# Altium integrated library TI Data Converters Analog to Digital Converter.IntLib: 2198 symbols (part 60 of 164)
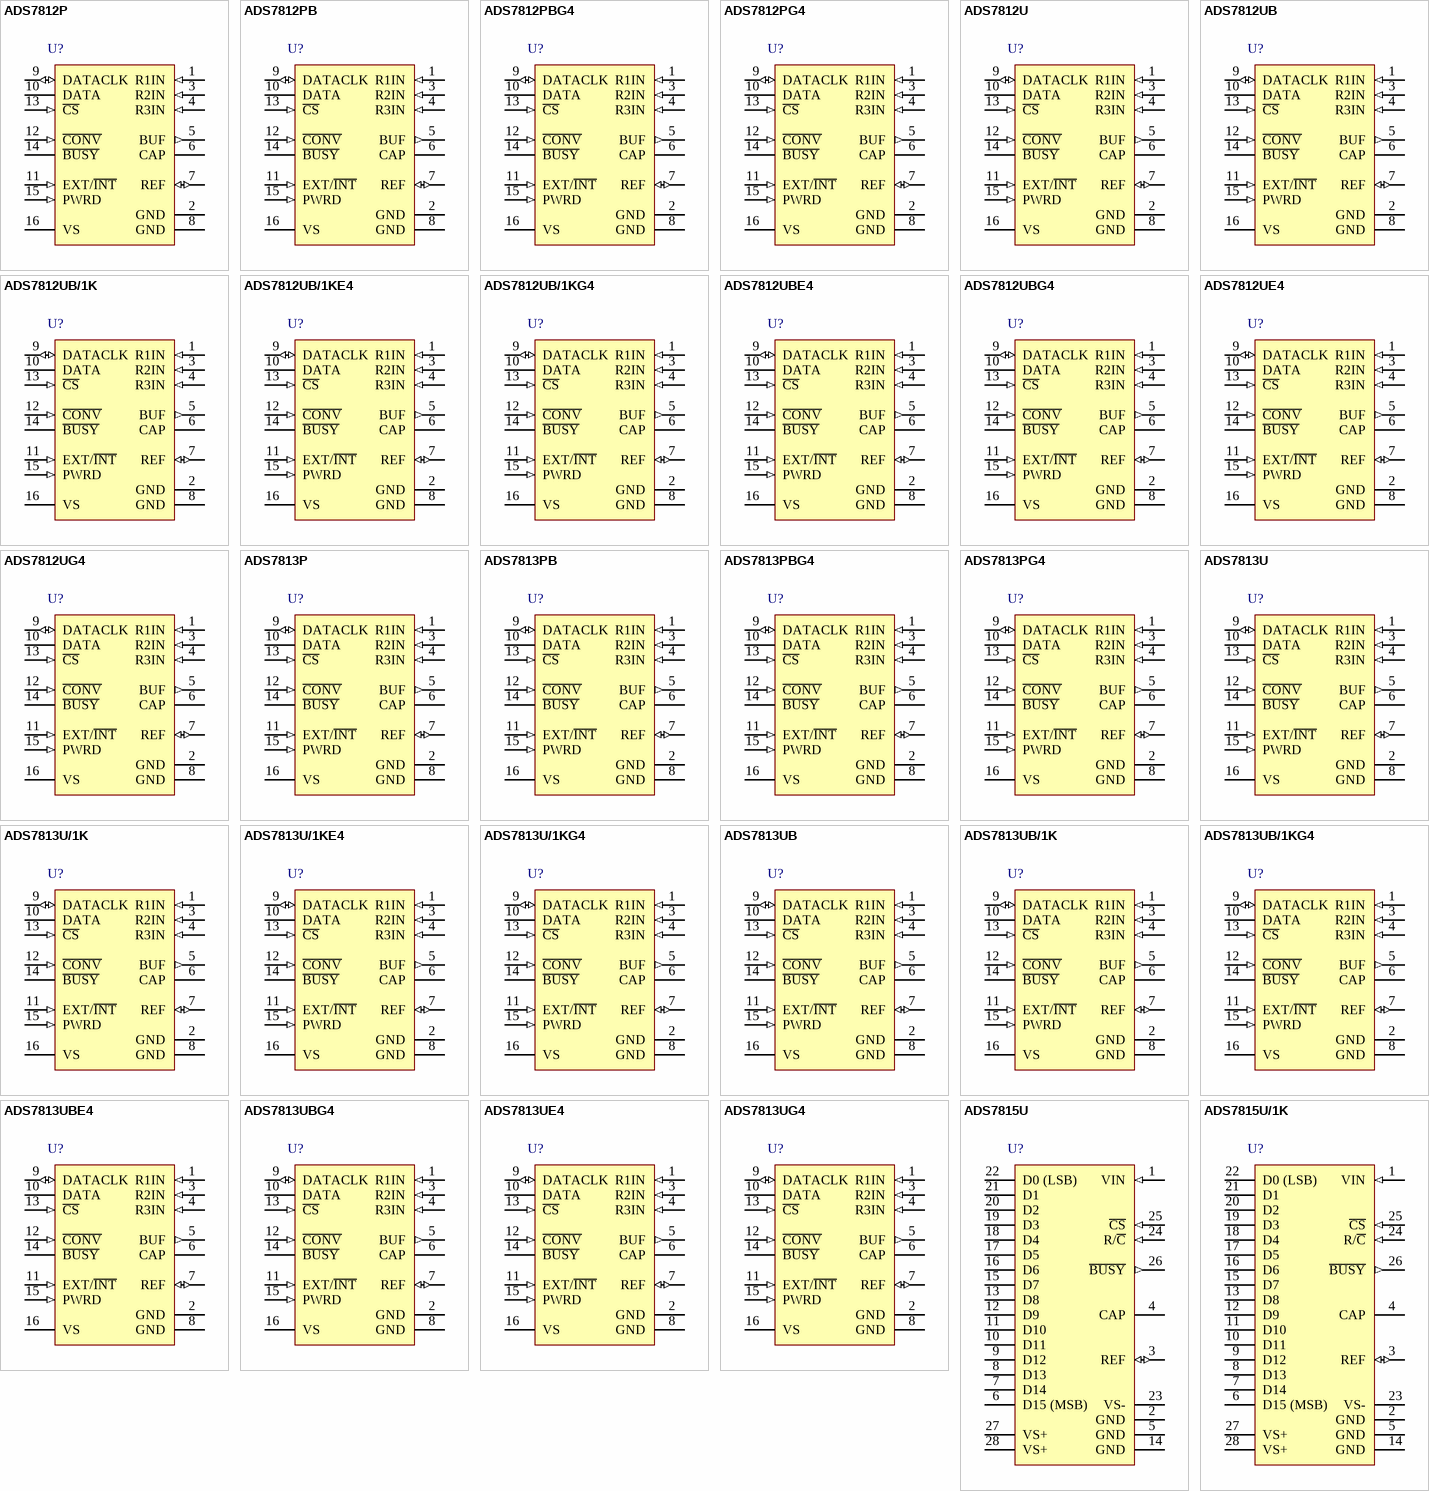
[diagram p185: symbols ADS7812P to ADS7815U/1K]

## ADS7815U
designator U?
16-Bit 250 kHz Sampling CMOS ADC, -25 to 85 degC, 28-pin SOIC (DW28), Green (RoHS & no Sb/Br); Manufacturer: Texas Instruments; PartNumber: ADS7815U; # Input Channels: 1; Analog Voltage AV/DD(Max)(V): 5.25; Analog Voltage AV/DD(Min)(V): 4.75; Architecture: SAR; INL(Max)(+/-LSB): 4; Interface: Parallel CMOS; Resolution(Bits): 16; Sample Rate (max)(SPS): 250k; SFDR(dB): 100; SubFamily: Precision ADC (<=10MSPS); DatasheetVersion: SBAS065B; PackageVersion: 4040000-6/G, 01/2011; PackageReference: DW28; PackageDescription: 28-Pin Plastic Small Outline, Body 17.90 x 7.50 mm, Pitch 1.27 mm; Supplier 1: Digi-Key; Supplier Part Number 1: 296-18258-2-ND; Digital Supply(Max)(V): 5.25; Digital Supply(Min)(V): 4.75; Eco-Plan: Green (RoHS & no Sb/Br); Mounting Technology: Surface Mount; Code_JEDEC: MS-013; ComponentLink1Description: Manufacturer URL; ComponentLink1URL: http://www.ti.com/; ComponentLink2Description: Datasheet; ComponentLink2URL: http://www.ti.com/general/docs/lit/getliterature.tsp?genericPartNumber=ADS7815&fileType=pdf; ComponentLink3Description: Package Specification; ComponentLink3URL: http://www.ti.com/lit/ml/mpds175a/mpds175a.pdf
footprint TI-DW28_N (SOIC, 28-Leads, Body 17.9x7.5mm, Pitch 1.27mm, IPC Medium Density)
footprint TI-DW28_L (SOIC, 28-Leads, Body 17.9x7.5mm, Pitch 1.27mm, IPC High Density)
footprint TI-DW28_M (SOIC, 28-Leads, Body 17.9x7.5mm, Pitch 1.27mm, IPC Low Density)
pins: 1 VIN (in) "Analog Input. Full-scale input range is +/-2.5V.", 2 GND (power) "Ground.", 3 REF (io) "Reference Input/Output. Outputs internal reference of +2.5V nominal. Can also be driven by external system reference. In both cases, connect to ground with a 0.1uF ceramic capacitor in parallel with 2.2uF tantalum capacitor.", 4 CAP "Reference compensation capacitor. Use a parallel combination of a 0.1uF ceramic capacitor and a 2.2uF tantalum capacitor.", 5 GND (power) "Ground.", 6 D15 (MSB) (hiz) "Data Bit 15. Most Significant Bit (MSB) of conversion results. Hi-Z state when C\S\ is HIGH, when R/C\is LOW or when a conversion is in progress.", 7 D14 (hiz) "Data Bit 14. Hi-Z state when C\S\ is HIGH, when R/C is LOW or when a conversion is in progress.", 8 D13 (hiz) "Data Bit 13. Hi-Z state when C\S\ is HIGH, when R/C is LOW or when a conversion is in progress.", 9 D12 (hiz) "Data Bit 12. Hi-Z state when C\S\ is HIGH, when R/C is LOW or when a conversion is in progress.", 10 D11 (hiz) "Data Bit 11. Hi-Z state when C\S\ is HIGH, when R/C is LOW or when a conversion is in progress.", 11 D10 (hiz) "Data Bit 10. Hi-Z state when C\S\ is HIGH, when R/C is LOW or when a conversion is in progress.", 12 D9 (hiz) "Data Bit 9. Hi-Z state when C\S\ is HIGH, when R/C is LOW or when a conversion is in progress.", 13 D8 (hiz) "Data Bit 8. Hi-Z state when C\S\ is HIGH, when R/C is LOW or when a conversion is in progress.", 14 GND (power) "Ground.", 15 D7 (hiz) "Data Bit 7. Hi-Z state when C\S\ is HIGH, when R/C is LOW or when a conversion is in progress.", 16 D6 (hiz) "Data Bit 6. Hi-Z state when C\S\ is HIGH, when R/C is LOW or when a conversion is in progress.", 17 D5 (hiz) "Data Bit 5. Hi-Z state when C\S\ is HIGH, when R/C is LOW or when a conversion is in progress.", 18 D4 (hiz) "Data Bit 4. Hi-Z state when C\S\ is HIGH, when R/C is LOW or when a conversion is in progress.", 19 D3 (hiz) "Data Bit 3. Hi-Z state when C\S\ is HIGH, when R/C is LOW or when a conversion is in progress.", 20 D2 (hiz) "Data Bit 2. Hi-Z state when C\S\ is HIGH, when R/C is LOW or when a conversion is in progress.", 21 D1 (hiz) "Data Bit 1. Hi-Z state when C\S\ is HIGH, when R/C is LOW or when a conversion is in progress.", 22 D0 (LSB) (hiz) "Data Bit 0. Least Significant Bit (LSB) of conversion results. Hi-Z state when C\S\ is HIGH, when R/C\ is LOW or when a conversion is in progress.", 23 VS- (power) "Negative supply input. Nominally -5V. Decouple to analog ground with 0.1uF ceramic and 10uF tantalum capacitors.", 24 R/~{C} (in) "Read/convert input. With R/C\ HIGH, C\S\ going LOW will enable the output data bits if a conversion is not in progress. With R/C\ LOW, C\S\ going LOW will start a conversion if one is not already in progress.", 25 ~{CS} (in) "Chip select. With R/C\ LOW, C\S\ going LOW will initiate a conversion if one is not already in progress. With R/C\ HIGH, CS going LOW will enable the output data bits if a conversion is not in progress.", 26 ~{BUSY} (out) "Busy output. Falls when a conversion is started, and remains LOW until the conversion is completed. With C\S\ LOW and R/C\ HIGH, output data will be valid when B\U\S\Y\ rises, so that the rising edge can be used to latch the (See Datasheet)", 27 VS+ (power) "Positive supply input. Nominally +5V. Connect directly to pin 28.", 28 VS+ (power) "Positive supply input. Nominally +5V. Connect directly to pin 27. Decouple to ground with 0.1uF ceramic and 10uF tantalum capacitors."

## ADS7815U/1K
designator U?
16-Bit 250 kHz Sampling CMOS ADC, -25 to 85 degC, 28-pin SOIC (DW28), Green (RoHS & no Sb/Br); Manufacturer: Texas Instruments; PartNumber: ADS7815U/1K; # Input Channels: 1; Analog Voltage AV/DD(Max)(V): 5.25; Analog Voltage AV/DD(Min)(V): 4.75; Architecture: SAR; INL(Max)(+/-LSB): 4; Interface: Parallel CMOS; Resolution(Bits): 16; Sample Rate (max)(SPS): 250k; SFDR(dB): 100; SubFamily: Precision ADC (<=10MSPS); DatasheetVersion: SBAS065B; PackageVersion: 4040000-6/G, 01/2011; PackageReference: DW28; PackageDescription: 28-Pin Plastic Small Outline, Body 17.90 x 7.50 mm, Pitch 1.27 mm; Supplier 1: Digi-Key; Supplier Part Number 1: DDC118IRTCTG4-ND; Digital Supply(Max)(V): 5.25; Digital Supply(Min)(V): 4.75; Eco-Plan: Green (RoHS & no Sb/Br); Mounting Technology: Surface Mount; Code_JEDEC: MS-013; ComponentLink1Description: Manufacturer URL; ComponentLink1URL: http://www.ti.com/; ComponentLink2Description: Datasheet; ComponentLink2URL: http://www.ti.com/general/docs/lit/getliterature.tsp?genericPartNumber=ADS7815&fileType=pdf; ComponentLink3Description: Package Specification; ComponentLink3URL: http://www.ti.com/lit/ml/mpds175a/mpds175a.pdf
footprint TI-DW28_N (SOIC, 28-Leads, Body 17.9x7.5mm, Pitch 1.27mm, IPC Medium Density)
footprint TI-DW28_L (SOIC, 28-Leads, Body 17.9x7.5mm, Pitch 1.27mm, IPC High Density)
footprint TI-DW28_M (SOIC, 28-Leads, Body 17.9x7.5mm, Pitch 1.27mm, IPC Low Density)
pins: 1 VIN (in) "Analog Input. Full-scale input range is +/-2.5V.", 2 GND (power) "Ground.", 3 REF (io) "Reference Input/Output. Outputs internal reference of +2.5V nominal. Can also be driven by external system reference. In both cases, connect to ground with a 0.1uF ceramic capacitor in parallel with 2.2uF tantalum capacitor.", 4 CAP "Reference compensation capacitor. Use a parallel combination of a 0.1uF ceramic capacitor and a 2.2uF tantalum capacitor.", 5 GND (power) "Ground.", 6 D15 (MSB) (hiz) "Data Bit 15. Most Significant Bit (MSB) of conversion results. Hi-Z state when C\S\ is HIGH, when R/C\is LOW or when a conversion is in progress.", 7 D14 (hiz) "Data Bit 14. Hi-Z state when C\S\ is HIGH, when R/C is LOW or when a conversion is in progress.", 8 D13 (hiz) "Data Bit 13. Hi-Z state when C\S\ is HIGH, when R/C is LOW or when a conversion is in progress.", 9 D12 (hiz) "Data Bit 12. Hi-Z state when C\S\ is HIGH, when R/C is LOW or when a conversion is in progress.", 10 D11 (hiz) "Data Bit 11. Hi-Z state when C\S\ is HIGH, when R/C is LOW or when a conversion is in progress.", 11 D10 (hiz) "Data Bit 10. Hi-Z state when C\S\ is HIGH, when R/C is LOW or when a conversion is in progress.", 12 D9 (hiz) "Data Bit 9. Hi-Z state when C\S\ is HIGH, when R/C is LOW or when a conversion is in progress.", 13 D8 (hiz) "Data Bit 8. Hi-Z state when C\S\ is HIGH, when R/C is LOW or when a conversion is in progress.", 14 GND (power) "Ground.", 15 D7 (hiz) "Data Bit 7. Hi-Z state when C\S\ is HIGH, when R/C is LOW or when a conversion is in progress.", 16 D6 (hiz) "Data Bit 6. Hi-Z state when C\S\ is HIGH, when R/C is LOW or when a conversion is in progress.", 17 D5 (hiz) "Data Bit 5. Hi-Z state when C\S\ is HIGH, when R/C is LOW or when a conversion is in progress.", 18 D4 (hiz) "Data Bit 4. Hi-Z state when C\S\ is HIGH, when R/C is LOW or when a conversion is in progress.", 19 D3 (hiz) "Data Bit 3. Hi-Z state when C\S\ is HIGH, when R/C is LOW or when a conversion is in progress.", 20 D2 (hiz) "Data Bit 2. Hi-Z state when C\S\ is HIGH, when R/C is LOW or when a conversion is in progress.", 21 D1 (hiz) "Data Bit 1. Hi-Z state when C\S\ is HIGH, when R/C is LOW or when a conversion is in progress.", 22 D0 (LSB) (hiz) "Data Bit 0. Least Significant Bit (LSB) of conversion results. Hi-Z state when C\S\ is HIGH, when R/C\ is LOW or when a conversion is in progress.", 23 VS- (power) "Negative supply input. Nominally -5V. Decouple to analog ground with 0.1uF ceramic and 10uF tantalum capacitors.", 24 R/~{C} (in) "Read/convert input. With R/C\ HIGH, C\S\ going LOW will enable the output data bits if a conversion is not in progress. With R/C\ LOW, C\S\ going LOW will start a conversion if one is not already in progress.", 25 ~{CS} (in) "Chip select. With R/C\ LOW, C\S\ going LOW will initiate a conversion if one is not already in progress. With R/C\ HIGH, CS going LOW will enable the output data bits if a conversion is not in progress.", 26 ~{BUSY} (out) "Busy output. Falls when a conversion is started, and remains LOW until the conversion is completed. With C\S\ LOW and R/C\ HIGH, output data will be valid when B\U\S\Y\ rises, so that the rising edge can be used to latch the (See Datasheet)", 27 VS+ (power) "Positive supply input. Nominally +5V. Connect directly to pin 28.", 28 VS+ (power) "Positive supply input. Nominally +5V. Connect directly to pin 27. Decouple to ground with 0.1uF ceramic and 10uF tantalum capacitors."

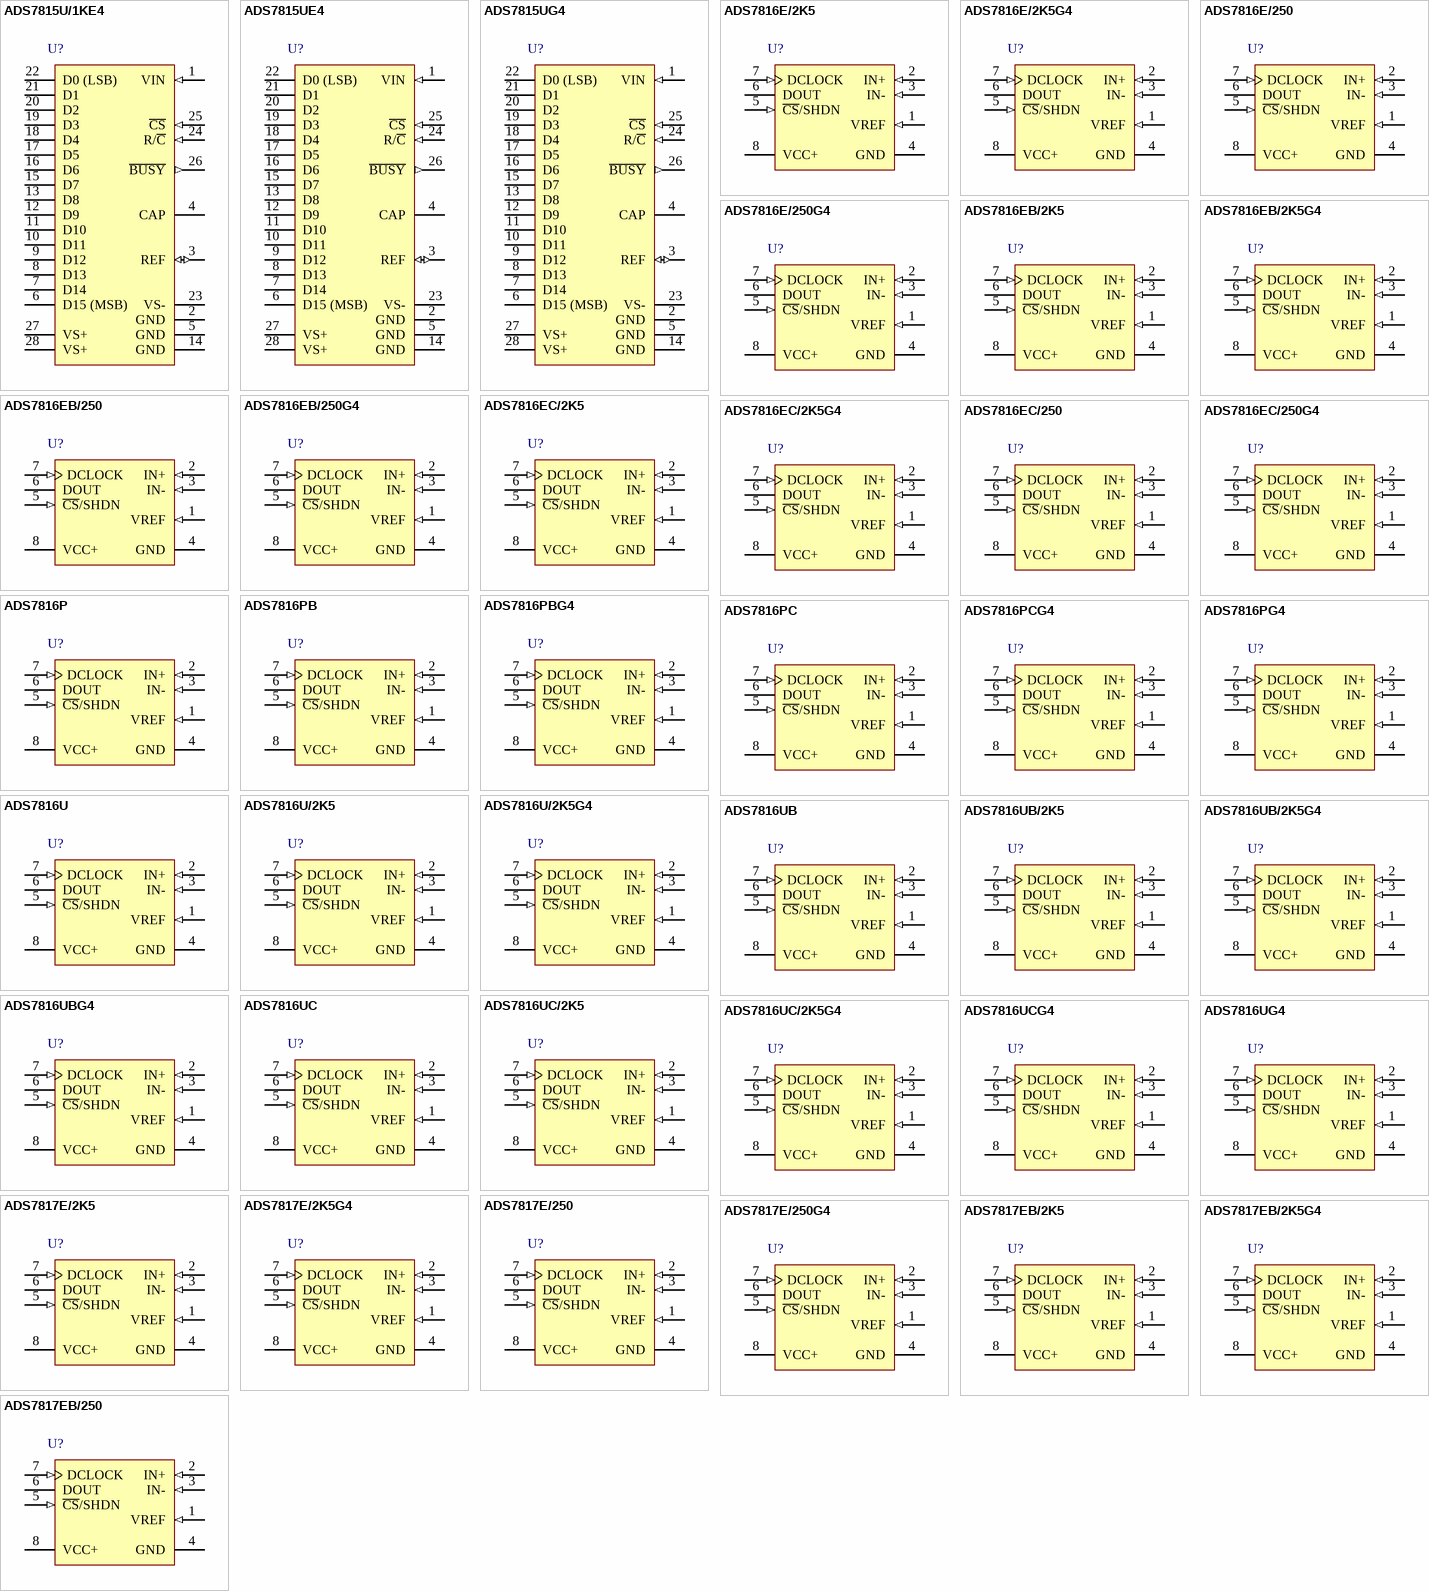
[diagram p59: symbols ADS7815U/1KE4 to ADS7817EB/250]

## ADS7815U/1KE4
designator U?
16-Bit 250 kHz Sampling CMOS ADC, -25 to 85 degC, 28-pin SOIC (DW28), Green (RoHS & no Sb/Br); Manufacturer: Texas Instruments; PartNumber: ADS7815U/1KE4; # Input Channels: 1; Analog Voltage AV/DD(Max)(V): 5.25; Analog Voltage AV/DD(Min)(V): 4.75; Architecture: SAR; INL(Max)(+/-LSB): 4; Interface: Parallel CMOS; Resolution(Bits): 16; Sample Rate (max)(SPS): 250k; SFDR(dB): 100; SubFamily: Precision ADC (<=10MSPS); DatasheetVersion: SBAS065B; PackageVersion: 4040000-6/G, 01/2011; PackageReference: DW28; PackageDescription: 28-Pin Plastic Small Outline, Body 17.90 x 7.50 mm, Pitch 1.27 mm; Supplier 1: Digi-Key; Supplier Part Number 1: DDC114IRTCR-ND; Digital Supply(Max)(V): 5.25; Digital Supply(Min)(V): 4.75; Eco-Plan: Green (RoHS & no Sb/Br); Mounting Technology: Surface Mount; Code_JEDEC: MS-013; ComponentLink1Description: Manufacturer URL; ComponentLink1URL: http://www.ti.com/; ComponentLink2Description: Datasheet; ComponentLink2URL: http://www.ti.com/general/docs/lit/getliterature.tsp?genericPartNumber=ADS7815&fileType=pdf; ComponentLink3Description: Package Specification; ComponentLink3URL: http://www.ti.com/lit/ml/mpds175a/mpds175a.pdf
footprint TI-DW28_N (SOIC, 28-Leads, Body 17.9x7.5mm, Pitch 1.27mm, IPC Medium Density)
footprint TI-DW28_L (SOIC, 28-Leads, Body 17.9x7.5mm, Pitch 1.27mm, IPC High Density)
footprint TI-DW28_M (SOIC, 28-Leads, Body 17.9x7.5mm, Pitch 1.27mm, IPC Low Density)
pins: 1 VIN (in) "Analog Input. Full-scale input range is +/-2.5V.", 2 GND (power) "Ground.", 3 REF (io) "Reference Input/Output. Outputs internal reference of +2.5V nominal. Can also be driven by external system reference. In both cases, connect to ground with a 0.1uF ceramic capacitor in parallel with 2.2uF tantalum capacitor.", 4 CAP "Reference compensation capacitor. Use a parallel combination of a 0.1uF ceramic capacitor and a 2.2uF tantalum capacitor.", 5 GND (power) "Ground.", 6 D15 (MSB) (hiz) "Data Bit 15. Most Significant Bit (MSB) of conversion results. Hi-Z state when C\S\ is HIGH, when R/C\is LOW or when a conversion is in progress.", 7 D14 (hiz) "Data Bit 14. Hi-Z state when C\S\ is HIGH, when R/C is LOW or when a conversion is in progress.", 8 D13 (hiz) "Data Bit 13. Hi-Z state when C\S\ is HIGH, when R/C is LOW or when a conversion is in progress.", 9 D12 (hiz) "Data Bit 12. Hi-Z state when C\S\ is HIGH, when R/C is LOW or when a conversion is in progress.", 10 D11 (hiz) "Data Bit 11. Hi-Z state when C\S\ is HIGH, when R/C is LOW or when a conversion is in progress.", 11 D10 (hiz) "Data Bit 10. Hi-Z state when C\S\ is HIGH, when R/C is LOW or when a conversion is in progress.", 12 D9 (hiz) "Data Bit 9. Hi-Z state when C\S\ is HIGH, when R/C is LOW or when a conversion is in progress.", 13 D8 (hiz) "Data Bit 8. Hi-Z state when C\S\ is HIGH, when R/C is LOW or when a conversion is in progress.", 14 GND (power) "Ground.", 15 D7 (hiz) "Data Bit 7. Hi-Z state when C\S\ is HIGH, when R/C is LOW or when a conversion is in progress.", 16 D6 (hiz) "Data Bit 6. Hi-Z state when C\S\ is HIGH, when R/C is LOW or when a conversion is in progress.", 17 D5 (hiz) "Data Bit 5. Hi-Z state when C\S\ is HIGH, when R/C is LOW or when a conversion is in progress.", 18 D4 (hiz) "Data Bit 4. Hi-Z state when C\S\ is HIGH, when R/C is LOW or when a conversion is in progress.", 19 D3 (hiz) "Data Bit 3. Hi-Z state when C\S\ is HIGH, when R/C is LOW or when a conversion is in progress.", 20 D2 (hiz) "Data Bit 2. Hi-Z state when C\S\ is HIGH, when R/C is LOW or when a conversion is in progress.", 21 D1 (hiz) "Data Bit 1. Hi-Z state when C\S\ is HIGH, when R/C is LOW or when a conversion is in progress.", 22 D0 (LSB) (hiz) "Data Bit 0. Least Significant Bit (LSB) of conversion results. Hi-Z state when C\S\ is HIGH, when R/C\ is LOW or when a conversion is in progress.", 23 VS- (power) "Negative supply input. Nominally -5V. Decouple to analog ground with 0.1uF ceramic and 10uF tantalum capacitors.", 24 R/~{C} (in) "Read/convert input. With R/C\ HIGH, C\S\ going LOW will enable the output data bits if a conversion is not in progress. With R/C\ LOW, C\S\ going LOW will start a conversion if one is not already in progress.", 25 ~{CS} (in) "Chip select. With R/C\ LOW, C\S\ going LOW will initiate a conversion if one is not already in progress. With R/C\ HIGH, CS going LOW will enable the output data bits if a conversion is not in progress.", 26 ~{BUSY} (out) "Busy output. Falls when a conversion is started, and remains LOW until the conversion is completed. With C\S\ LOW and R/C\ HIGH, output data will be valid when B\U\S\Y\ rises, so that the rising edge can be used to latch the (See Datasheet)", 27 VS+ (power) "Positive supply input. Nominally +5V. Connect directly to pin 28.", 28 VS+ (power) "Positive supply input. Nominally +5V. Connect directly to pin 27. Decouple to ground with 0.1uF ceramic and 10uF tantalum capacitors."

## ADS7815UE4
designator U?
16-Bit 250 kHz Sampling CMOS ADC, -25 to 85 degC, 28-pin SOIC (DW28), Green (RoHS & no Sb/Br); Manufacturer: Texas Instruments; PartNumber: ADS7815UE4; # Input Channels: 1; Analog Voltage AV/DD(Max)(V): 5.25; Analog Voltage AV/DD(Min)(V): 4.75; Architecture: SAR; INL(Max)(+/-LSB): 4; Interface: Parallel CMOS; Resolution(Bits): 16; Sample Rate (max)(SPS): 250k; SFDR(dB): 100; SubFamily: Precision ADC (<=10MSPS); DatasheetVersion: SBAS065B; PackageVersion: 4040000-6/G, 01/2011; PackageReference: DW28; PackageDescription: 28-Pin Plastic Small Outline, Body 17.90 x 7.50 mm, Pitch 1.27 mm; Supplier 1: Digi-Key; Supplier Part Number 1: DDC114IRTCRG3-ND; Digital Supply(Max)(V): 5.25; Digital Supply(Min)(V): 4.75; Eco-Plan: Green (RoHS & no Sb/Br); Mounting Technology: Surface Mount; Code_JEDEC: MS-013; ComponentLink1Description: Manufacturer URL; ComponentLink1URL: http://www.ti.com/; ComponentLink2Description: Datasheet; ComponentLink2URL: http://www.ti.com/general/docs/lit/getliterature.tsp?genericPartNumber=ADS7815&fileType=pdf; ComponentLink3Description: Package Specification; ComponentLink3URL: http://www.ti.com/lit/ml/mpds175a/mpds175a.pdf
footprint TI-DW28_N (SOIC, 28-Leads, Body 17.9x7.5mm, Pitch 1.27mm, IPC Medium Density)
footprint TI-DW28_L (SOIC, 28-Leads, Body 17.9x7.5mm, Pitch 1.27mm, IPC High Density)
footprint TI-DW28_M (SOIC, 28-Leads, Body 17.9x7.5mm, Pitch 1.27mm, IPC Low Density)
pins: 1 VIN (in) "Analog Input. Full-scale input range is +/-2.5V.", 2 GND (power) "Ground.", 3 REF (io) "Reference Input/Output. Outputs internal reference of +2.5V nominal. Can also be driven by external system reference. In both cases, connect to ground with a 0.1uF ceramic capacitor in parallel with 2.2uF tantalum capacitor.", 4 CAP "Reference compensation capacitor. Use a parallel combination of a 0.1uF ceramic capacitor and a 2.2uF tantalum capacitor.", 5 GND (power) "Ground.", 6 D15 (MSB) (hiz) "Data Bit 15. Most Significant Bit (MSB) of conversion results. Hi-Z state when C\S\ is HIGH, when R/C\is LOW or when a conversion is in progress.", 7 D14 (hiz) "Data Bit 14. Hi-Z state when C\S\ is HIGH, when R/C is LOW or when a conversion is in progress.", 8 D13 (hiz) "Data Bit 13. Hi-Z state when C\S\ is HIGH, when R/C is LOW or when a conversion is in progress.", 9 D12 (hiz) "Data Bit 12. Hi-Z state when C\S\ is HIGH, when R/C is LOW or when a conversion is in progress.", 10 D11 (hiz) "Data Bit 11. Hi-Z state when C\S\ is HIGH, when R/C is LOW or when a conversion is in progress.", 11 D10 (hiz) "Data Bit 10. Hi-Z state when C\S\ is HIGH, when R/C is LOW or when a conversion is in progress.", 12 D9 (hiz) "Data Bit 9. Hi-Z state when C\S\ is HIGH, when R/C is LOW or when a conversion is in progress.", 13 D8 (hiz) "Data Bit 8. Hi-Z state when C\S\ is HIGH, when R/C is LOW or when a conversion is in progress.", 14 GND (power) "Ground.", 15 D7 (hiz) "Data Bit 7. Hi-Z state when C\S\ is HIGH, when R/C is LOW or when a conversion is in progress.", 16 D6 (hiz) "Data Bit 6. Hi-Z state when C\S\ is HIGH, when R/C is LOW or when a conversion is in progress.", 17 D5 (hiz) "Data Bit 5. Hi-Z state when C\S\ is HIGH, when R/C is LOW or when a conversion is in progress.", 18 D4 (hiz) "Data Bit 4. Hi-Z state when C\S\ is HIGH, when R/C is LOW or when a conversion is in progress.", 19 D3 (hiz) "Data Bit 3. Hi-Z state when C\S\ is HIGH, when R/C is LOW or when a conversion is in progress.", 20 D2 (hiz) "Data Bit 2. Hi-Z state when C\S\ is HIGH, when R/C is LOW or when a conversion is in progress.", 21 D1 (hiz) "Data Bit 1. Hi-Z state when C\S\ is HIGH, when R/C is LOW or when a conversion is in progress.", 22 D0 (LSB) (hiz) "Data Bit 0. Least Significant Bit (LSB) of conversion results. Hi-Z state when C\S\ is HIGH, when R/C\ is LOW or when a conversion is in progress.", 23 VS- (power) "Negative supply input. Nominally -5V. Decouple to analog ground with 0.1uF ceramic and 10uF tantalum capacitors.", 24 R/~{C} (in) "Read/convert input. With R/C\ HIGH, C\S\ going LOW will enable the output data bits if a conversion is not in progress. With R/C\ LOW, C\S\ going LOW will start a conversion if one is not already in progress.", 25 ~{CS} (in) "Chip select. With R/C\ LOW, C\S\ going LOW will initiate a conversion if one is not already in progress. With R/C\ HIGH, CS going LOW will enable the output data bits if a conversion is not in progress.", 26 ~{BUSY} (out) "Busy output. Falls when a conversion is started, and remains LOW until the conversion is completed. With C\S\ LOW and R/C\ HIGH, output data will be valid when B\U\S\Y\ rises, so that the rising edge can be used to latch the (See Datasheet)", 27 VS+ (power) "Positive supply input. Nominally +5V. Connect directly to pin 28.", 28 VS+ (power) "Positive supply input. Nominally +5V. Connect directly to pin 27. Decouple to ground with 0.1uF ceramic and 10uF tantalum capacitors."

## ADS7815UG4
designator U?
16-Bit 250 kHz Sampling CMOS ADC, -25 to 85 degC, 28-pin SOIC (DW28), Green (RoHS & no Sb/Br); Manufacturer: Texas Instruments; PartNumber: ADS7815UG4; # Input Channels: 1; Analog Voltage AV/DD(Max)(V): 5.25; Analog Voltage AV/DD(Min)(V): 4.75; Architecture: SAR; INL(Max)(+/-LSB): 4; Interface: Parallel CMOS; Resolution(Bits): 16; Sample Rate (max)(SPS): 250k; SFDR(dB): 100; SubFamily: Precision ADC (<=10MSPS); DatasheetVersion: SBAS065B; PackageVersion: 4040000-6/G, 01/2011; PackageReference: DW28; PackageDescription: 28-Pin Plastic Small Outline, Body 17.90 x 7.50 mm, Pitch 1.27 mm; Supplier 1: Digi-Key; Supplier Part Number 1: 296-17162-2-ND; Digital Supply(Max)(V): 5.25; Digital Supply(Min)(V): 4.75; Eco-Plan: Green (RoHS & no Sb/Br); Mounting Technology: Surface Mount; Code_JEDEC: MS-013; ComponentLink1Description: Manufacturer URL; ComponentLink1URL: http://www.ti.com/; ComponentLink2Description: Datasheet; ComponentLink2URL: http://www.ti.com/general/docs/lit/getliterature.tsp?genericPartNumber=ADS7815&fileType=pdf; ComponentLink3Description: Package Specification; ComponentLink3URL: http://www.ti.com/lit/ml/mpds175a/mpds175a.pdf
footprint TI-DW28_N (SOIC, 28-Leads, Body 17.9x7.5mm, Pitch 1.27mm, IPC Medium Density)
footprint TI-DW28_L (SOIC, 28-Leads, Body 17.9x7.5mm, Pitch 1.27mm, IPC High Density)
footprint TI-DW28_M (SOIC, 28-Leads, Body 17.9x7.5mm, Pitch 1.27mm, IPC Low Density)
pins: 1 VIN (in) "Analog Input. Full-scale input range is +/-2.5V.", 2 GND (power) "Ground.", 3 REF (io) "Reference Input/Output. Outputs internal reference of +2.5V nominal. Can also be driven by external system reference. In both cases, connect to ground with a 0.1uF ceramic capacitor in parallel with 2.2uF tantalum capacitor.", 4 CAP "Reference compensation capacitor. Use a parallel combination of a 0.1uF ceramic capacitor and a 2.2uF tantalum capacitor.", 5 GND (power) "Ground.", 6 D15 (MSB) (hiz) "Data Bit 15. Most Significant Bit (MSB) of conversion results. Hi-Z state when C\S\ is HIGH, when R/C\is LOW or when a conversion is in progress.", 7 D14 (hiz) "Data Bit 14. Hi-Z state when C\S\ is HIGH, when R/C is LOW or when a conversion is in progress.", 8 D13 (hiz) "Data Bit 13. Hi-Z state when C\S\ is HIGH, when R/C is LOW or when a conversion is in progress.", 9 D12 (hiz) "Data Bit 12. Hi-Z state when C\S\ is HIGH, when R/C is LOW or when a conversion is in progress.", 10 D11 (hiz) "Data Bit 11. Hi-Z state when C\S\ is HIGH, when R/C is LOW or when a conversion is in progress.", 11 D10 (hiz) "Data Bit 10. Hi-Z state when C\S\ is HIGH, when R/C is LOW or when a conversion is in progress.", 12 D9 (hiz) "Data Bit 9. Hi-Z state when C\S\ is HIGH, when R/C is LOW or when a conversion is in progress.", 13 D8 (hiz) "Data Bit 8. Hi-Z state when C\S\ is HIGH, when R/C is LOW or when a conversion is in progress.", 14 GND (power) "Ground.", 15 D7 (hiz) "Data Bit 7. Hi-Z state when C\S\ is HIGH, when R/C is LOW or when a conversion is in progress.", 16 D6 (hiz) "Data Bit 6. Hi-Z state when C\S\ is HIGH, when R/C is LOW or when a conversion is in progress.", 17 D5 (hiz) "Data Bit 5. Hi-Z state when C\S\ is HIGH, when R/C is LOW or when a conversion is in progress.", 18 D4 (hiz) "Data Bit 4. Hi-Z state when C\S\ is HIGH, when R/C is LOW or when a conversion is in progress.", 19 D3 (hiz) "Data Bit 3. Hi-Z state when C\S\ is HIGH, when R/C is LOW or when a conversion is in progress.", 20 D2 (hiz) "Data Bit 2. Hi-Z state when C\S\ is HIGH, when R/C is LOW or when a conversion is in progress.", 21 D1 (hiz) "Data Bit 1. Hi-Z state when C\S\ is HIGH, when R/C is LOW or when a conversion is in progress.", 22 D0 (LSB) (hiz) "Data Bit 0. Least Significant Bit (LSB) of conversion results. Hi-Z state when C\S\ is HIGH, when R/C\ is LOW or when a conversion is in progress.", 23 VS- (power) "Negative supply input. Nominally -5V. Decouple to analog ground with 0.1uF ceramic and 10uF tantalum capacitors.", 24 R/~{C} (in) "Read/convert input. With R/C\ HIGH, C\S\ going LOW will enable the output data bits if a conversion is not in progress. With R/C\ LOW, C\S\ going LOW will start a conversion if one is not already in progress.", 25 ~{CS} (in) "Chip select. With R/C\ LOW, C\S\ going LOW will initiate a conversion if one is not already in progress. With R/C\ HIGH, CS going LOW will enable the output data bits if a conversion is not in progress.", 26 ~{BUSY} (out) "Busy output. Falls when a conversion is started, and remains LOW until the conversion is completed. With C\S\ LOW and R/C\ HIGH, output data will be valid when B\U\S\Y\ rises, so that the rising edge can be used to latch the (See Datasheet)", 27 VS+ (power) "Positive supply input. Nominally +5V. Connect directly to pin 28.", 28 VS+ (power) "Positive supply input. Nominally +5V. Connect directly to pin 27. Decouple to ground with 0.1uF ceramic and 10uF tantalum capacitors."

## ADS7816E/2K5
designator U?
12-Bit High Speed Micro Power Sampling ADC, -40 to 85 degC, 8-pin SOP (DGK8), Green (RoHS & no Sb/Br); Manufacturer: Texas Instruments; PartNumber: ADS7816E/2K5; # Input Channels: 1; Analog Voltage AV/DD(Max)(V): 5.25; Analog Voltage AV/DD(Min)(V): 4.5; Architecture: SAR; Digital Supply(Min)(V): 4.75; INL(Max)(+/-LSB): 2; Interface: Serial SPI; Resolution(Bits): 12; Sample Rate (max)(SPS): 200k; SFDR(dB): 86; SINAD(dB): 72; SubFamily: Precision ADC (<=10MSPS); DatasheetVersion: SBAS061; PackageVersion: 4073329/E, 05/2006; PackageReference: DGK8; PackageDescription: 8-Pin Thin Small Outline, Body 3 x 3 mm, Pitch 0.65 mm; Supplier 1: Digi-Key; Supplier Part Number 1: DDC114IRTCTG3-ND; Digital Supply(Max)(V): 5.25; Eco-Plan: Green (RoHS & no Sb/Br); Mounting Technology: Surface Mount; Code_JEDEC: MO-187; ComponentLink1Description: Manufacturer URL; ComponentLink1URL: http://www.ti.com/; ComponentLink2Description: Datasheet; ComponentLink2URL: http://www.ti.com/general/docs/lit/getliterature.tsp?genericPartNumber=ADS7816&fileType=pdf; ComponentLink3Description: Package Specification; ComponentLink3URL: http://www.ti.com/litv/pdf/mpds028d
footprint TI-DGK8_N (SOP, 8-Leads, Body 3x3mm, Pitch 0.65mm, IPC Medium Density)
footprint TI-DGK8_L (SOP, 8-Leads, Body 3x3mm, Pitch 0.65mm, IPC High Density)
footprint TI-DGK8_M (SOP, 8-Leads, Body 3x3mm, Pitch 0.65mm, IPC Low Density)
pins: 1 VREF (in) "Reference input", 2 IN+ (in) "Noninverting input", 3 IN- (in) "Inverting input. Connect to ground or to remote ground sense point.", 4 GND (power) "Ground", 5 ~{CS}/SHDN (in) "Chip select when low; Shutdown mode when high.", 6 DOUT (hiz) "The serial output data word  is comprised of 12 bits of data. In operation, the data are valid on the falling edge of DCLOCK. The second clock pulse after the falling edge of C\S\ enables the serial output. After one null (See Datasheet)", 7 DCLOCK (in) "Data clock synchronizes the serial data transfer and determines conversion speed.", 8 VCC+ (power) "Power supply"

## ADS7816E/2K5G4
designator U?
12-Bit High Speed Micro Power Sampling ADC, -40 to 85 degC, 8-pin SOP (DGK8), Green (RoHS & no Sb/Br); Manufacturer: Texas Instruments; PartNumber: ADS7816E/2K5G4; # Input Channels: 1; Analog Voltage AV/DD(Max)(V): 5.25; Analog Voltage AV/DD(Min)(V): 4.5; Architecture: SAR; Digital Supply(Min)(V): 4.75; INL(Max)(+/-LSB): 2; Interface: Serial SPI; Resolution(Bits): 12; Sample Rate (max)(SPS): 200k; SFDR(dB): 86; SINAD(dB): 72; SubFamily: Precision ADC (<=10MSPS); DatasheetVersion: SBAS061; PackageVersion: 4073329/E, 05/2006; PackageReference: DGK8; PackageDescription: 8-Pin Thin Small Outline, Body 3 x 3 mm, Pitch 0.65 mm; Supplier 1: Digi-Key; Supplier Part Number 1: 296-18643-ND; Digital Supply(Max)(V): 5.25; Eco-Plan: Green (RoHS & no Sb/Br); Mounting Technology: Surface Mount; Code_JEDEC: MO-187; ComponentLink1Description: Manufacturer URL; ComponentLink1URL: http://www.ti.com/; ComponentLink2Description: Datasheet; ComponentLink2URL: http://www.ti.com/general/docs/lit/getliterature.tsp?genericPartNumber=ADS7816&fileType=pdf; ComponentLink3Description: Package Specification; ComponentLink3URL: http://www.ti.com/litv/pdf/mpds028d
footprint TI-DGK8_N (SOP, 8-Leads, Body 3x3mm, Pitch 0.65mm, IPC Medium Density)
footprint TI-DGK8_L (SOP, 8-Leads, Body 3x3mm, Pitch 0.65mm, IPC High Density)
footprint TI-DGK8_M (SOP, 8-Leads, Body 3x3mm, Pitch 0.65mm, IPC Low Density)
pins: 1 VREF (in) "Reference input", 2 IN+ (in) "Noninverting input", 3 IN- (in) "Inverting input. Connect to ground or to remote ground sense point.", 4 GND (power) "Ground", 5 ~{CS}/SHDN (in) "Chip select when low; Shutdown mode when high.", 6 DOUT (hiz) "The serial output data word  is comprised of 12 bits of data. In operation, the data are valid on the falling edge of DCLOCK. The second clock pulse after the falling edge of C\S\ enables the serial output. After one null (See Datasheet)", 7 DCLOCK (in) "Data clock synchronizes the serial data transfer and determines conversion speed.", 8 VCC+ (power) "Power supply"

## ADS7816E/250
designator U?
12-Bit High Speed Micro Power Sampling ADC, -40 to 85 degC, 8-pin SOP (DGK8), Green (RoHS & no Sb/Br); Manufacturer: Texas Instruments; PartNumber: ADS7816E/250; # Input Channels: 1; Analog Voltage AV/DD(Max)(V): 5.25; Analog Voltage AV/DD(Min)(V): 4.5; Architecture: SAR; Digital Supply(Min)(V): 4.75; INL(Max)(+/-LSB): 2; Interface: Serial SPI; Resolution(Bits): 12; Sample Rate (max)(SPS): 200k; SFDR(dB): 86; SINAD(dB): 72; SubFamily: Precision ADC (<=10MSPS); DatasheetVersion: SBAS061; PackageVersion: 4073329/E, 05/2006; PackageReference: DGK8; PackageDescription: 8-Pin Thin Small Outline, Body 3 x 3 mm, Pitch 0.65 mm; Supplier 1: Digi-Key; Supplier Part Number 1: ADS5242IPAPG4-ND; Digital Supply(Max)(V): 5.25; Eco-Plan: Green (RoHS & no Sb/Br); Mounting Technology: Surface Mount; Code_JEDEC: MO-187; ComponentLink1Description: Manufacturer URL; ComponentLink1URL: http://www.ti.com/; ComponentLink2Description: Datasheet; ComponentLink2URL: http://www.ti.com/general/docs/lit/getliterature.tsp?genericPartNumber=ADS7816&fileType=pdf; ComponentLink3Description: Package Specification; ComponentLink3URL: http://www.ti.com/litv/pdf/mpds028d
footprint TI-DGK8_N (SOP, 8-Leads, Body 3x3mm, Pitch 0.65mm, IPC Medium Density)
footprint TI-DGK8_L (SOP, 8-Leads, Body 3x3mm, Pitch 0.65mm, IPC High Density)
footprint TI-DGK8_M (SOP, 8-Leads, Body 3x3mm, Pitch 0.65mm, IPC Low Density)
pins: 1 VREF (in) "Reference input", 2 IN+ (in) "Noninverting input", 3 IN- (in) "Inverting input. Connect to ground or to remote ground sense point.", 4 GND (power) "Ground", 5 ~{CS}/SHDN (in) "Chip select when low; Shutdown mode when high.", 6 DOUT (hiz) "The serial output data word  is comprised of 12 bits of data. In operation, the data are valid on the falling edge of DCLOCK. The second clock pulse after the falling edge of C\S\ enables the serial output. After one null (See Datasheet)", 7 DCLOCK (in) "Data clock synchronizes the serial data transfer and determines conversion speed.", 8 VCC+ (power) "Power supply"

## ADS7816E/250G4
designator U?
12-Bit High Speed Micro Power Sampling ADC, -40 to 85 degC, 8-pin SOP (DGK8), Green (RoHS & no Sb/Br); Manufacturer: Texas Instruments; PartNumber: ADS7816E/250G4; # Input Channels: 1; Analog Voltage AV/DD(Max)(V): 5.25; Analog Voltage AV/DD(Min)(V): 4.5; Architecture: SAR; Digital Supply(Min)(V): 4.75; INL(Max)(+/-LSB): 2; Interface: Serial SPI; Resolution(Bits): 12; Sample Rate (max)(SPS): 200k; SFDR(dB): 86; SINAD(dB): 72; SubFamily: Precision ADC (<=10MSPS); DatasheetVersion: SBAS061; PackageVersion: 4073329/E, 05/2006; PackageReference: DGK8; PackageDescription: 8-Pin Thin Small Outline, Body 3 x 3 mm, Pitch 0.65 mm; Supplier 1: Digi-Key; Supplier Part Number 1: ADS5242IPAPT-ND; Digital Supply(Max)(V): 5.25; Eco-Plan: Green (RoHS & no Sb/Br); Mounting Technology: Surface Mount; Code_JEDEC: MO-187; ComponentLink1Description: Manufacturer URL; ComponentLink1URL: http://www.ti.com/; ComponentLink2Description: Datasheet; ComponentLink2URL: http://www.ti.com/general/docs/lit/getliterature.tsp?genericPartNumber=ADS7816&fileType=pdf; ComponentLink3Description: Package Specification; ComponentLink3URL: http://www.ti.com/litv/pdf/mpds028d
footprint TI-DGK8_N (SOP, 8-Leads, Body 3x3mm, Pitch 0.65mm, IPC Medium Density)
footprint TI-DGK8_L (SOP, 8-Leads, Body 3x3mm, Pitch 0.65mm, IPC High Density)
footprint TI-DGK8_M (SOP, 8-Leads, Body 3x3mm, Pitch 0.65mm, IPC Low Density)
pins: 1 VREF (in) "Reference input", 2 IN+ (in) "Noninverting input", 3 IN- (in) "Inverting input. Connect to ground or to remote ground sense point.", 4 GND (power) "Ground", 5 ~{CS}/SHDN (in) "Chip select when low; Shutdown mode when high.", 6 DOUT (hiz) "The serial output data word  is comprised of 12 bits of data. In operation, the data are valid on the falling edge of DCLOCK. The second clock pulse after the falling edge of C\S\ enables the serial output. After one null (See Datasheet)", 7 DCLOCK (in) "Data clock synchronizes the serial data transfer and determines conversion speed.", 8 VCC+ (power) "Power supply"

## ADS7816EB/2K5
designator U?
12-Bit High Speed Micro Power Sampling ADC, -40 to 85 degC, 8-pin SOP (DGK8), Green (RoHS & no Sb/Br); Manufacturer: Texas Instruments; PartNumber: ADS7816EB/2K5; # Input Channels: 1; Analog Voltage AV/DD(Max)(V): 5.25; Analog Voltage AV/DD(Min)(V): 4.5; Architecture: SAR; Digital Supply(Min)(V): 4.75; INL(Max)(+/-LSB): 2; Interface: Serial SPI; Resolution(Bits): 12; Sample Rate (max)(SPS): 200k; SFDR(dB): 86; SINAD(dB): 72; SubFamily: Precision ADC (<=10MSPS); DatasheetVersion: SBAS061; PackageVersion: 4073329/E, 05/2006; PackageReference: DGK8; PackageDescription: 8-Pin Thin Small Outline, Body 3 x 3 mm, Pitch 0.65 mm; Supplier 1: Digi-Key; Supplier Part Number 1: ADS5242IPAPTG4-ND; Digital Supply(Max)(V): 5.25; Eco-Plan: Green (RoHS & no Sb/Br); Mounting Technology: Surface Mount; Code_JEDEC: MO-187; ComponentLink1Description: Manufacturer URL; ComponentLink1URL: http://www.ti.com/; ComponentLink2Description: Datasheet; ComponentLink2URL: http://www.ti.com/general/docs/lit/getliterature.tsp?genericPartNumber=ADS7816&fileType=pdf; ComponentLink3Description: Package Specification; ComponentLink3URL: http://www.ti.com/litv/pdf/mpds028d
footprint TI-DGK8_N (SOP, 8-Leads, Body 3x3mm, Pitch 0.65mm, IPC Medium Density)
footprint TI-DGK8_L (SOP, 8-Leads, Body 3x3mm, Pitch 0.65mm, IPC High Density)
footprint TI-DGK8_M (SOP, 8-Leads, Body 3x3mm, Pitch 0.65mm, IPC Low Density)
pins: 1 VREF (in) "Reference input", 2 IN+ (in) "Noninverting input", 3 IN- (in) "Inverting input. Connect to ground or to remote ground sense point.", 4 GND (power) "Ground", 5 ~{CS}/SHDN (in) "Chip select when low; Shutdown mode when high.", 6 DOUT (hiz) "The serial output data word  is comprised of 12 bits of data. In operation, the data are valid on the falling edge of DCLOCK. The second clock pulse after the falling edge of C\S\ enables the serial output. After one null (See Datasheet)", 7 DCLOCK (in) "Data clock synchronizes the serial data transfer and determines conversion speed.", 8 VCC+ (power) "Power supply"

## ADS7816EB/2K5G4
designator U?
12-Bit High Speed Micro Power Sampling ADC, -40 to 85 degC, 8-pin SOP (DGK8), Green (RoHS & no Sb/Br); Manufacturer: Texas Instruments; PartNumber: ADS7816EB/2K5G4; # Input Channels: 1; Analog Voltage AV/DD(Max)(V): 5.25; Analog Voltage AV/DD(Min)(V): 4.5; Architecture: SAR; Digital Supply(Min)(V): 4.75; INL(Max)(+/-LSB): 2; Interface: Serial SPI; Resolution(Bits): 12; Sample Rate (max)(SPS): 200k; SFDR(dB): 86; SINAD(dB): 72; SubFamily: Precision ADC (<=10MSPS); DatasheetVersion: SBAS061; PackageVersion: 4073329/E, 05/2006; PackageReference: DGK8; PackageDescription: 8-Pin Thin Small Outline, Body 3 x 3 mm, Pitch 0.65 mm; Supplier 1: Digi-Key; Supplier Part Number 1: 296-22551-ND; Digital Supply(Max)(V): 5.25; Eco-Plan: Green (RoHS & no Sb/Br); Mounting Technology: Surface Mount; Code_JEDEC: MO-187; ComponentLink1Description: Manufacturer URL; ComponentLink1URL: http://www.ti.com/; ComponentLink2Description: Datasheet; ComponentLink2URL: http://www.ti.com/general/docs/lit/getliterature.tsp?genericPartNumber=ADS7816&fileType=pdf; ComponentLink3Description: Package Specification; ComponentLink3URL: http://www.ti.com/litv/pdf/mpds028d
footprint TI-DGK8_N (SOP, 8-Leads, Body 3x3mm, Pitch 0.65mm, IPC Medium Density)
footprint TI-DGK8_L (SOP, 8-Leads, Body 3x3mm, Pitch 0.65mm, IPC High Density)
footprint TI-DGK8_M (SOP, 8-Leads, Body 3x3mm, Pitch 0.65mm, IPC Low Density)
pins: 1 VREF (in) "Reference input", 2 IN+ (in) "Noninverting input", 3 IN- (in) "Inverting input. Connect to ground or to remote ground sense point.", 4 GND (power) "Ground", 5 ~{CS}/SHDN (in) "Chip select when low; Shutdown mode when high.", 6 DOUT (hiz) "The serial output data word  is comprised of 12 bits of data. In operation, the data are valid on the falling edge of DCLOCK. The second clock pulse after the falling edge of C\S\ enables the serial output. After one null (See Datasheet)", 7 DCLOCK (in) "Data clock synchronizes the serial data transfer and determines conversion speed.", 8 VCC+ (power) "Power supply"

## ADS7816EB/250
designator U?
12-Bit High Speed Micro Power Sampling ADC, -40 to 85 degC, 8-pin SOP (DGK8), Green (RoHS & no Sb/Br); Manufacturer: Texas Instruments; PartNumber: ADS7816EB/250; # Input Channels: 1; Analog Voltage AV/DD(Max)(V): 5.25; Analog Voltage AV/DD(Min)(V): 4.5; Architecture: SAR; Digital Supply(Min)(V): 4.75; INL(Max)(+/-LSB): 2; Interface: Serial SPI; Resolution(Bits): 12; Sample Rate (max)(SPS): 200k; SFDR(dB): 86; SINAD(dB): 72; SubFamily: Precision ADC (<=10MSPS); DatasheetVersion: SBAS061; PackageVersion: 4073329/E, 05/2006; PackageReference: DGK8; PackageDescription: 8-Pin Thin Small Outline, Body 3 x 3 mm, Pitch 0.65 mm; Supplier 1: Digi-Key; Supplier Part Number 1: 296-19488-2-ND; Digital Supply(Max)(V): 5.25; Eco-Plan: Green (RoHS & no Sb/Br); Mounting Technology: Surface Mount; Code_JEDEC: MO-187; ComponentLink1Description: Manufacturer URL; ComponentLink1URL: http://www.ti.com/; ComponentLink2Description: Datasheet; ComponentLink2URL: http://www.ti.com/general/docs/lit/getliterature.tsp?genericPartNumber=ADS7816&fileType=pdf; ComponentLink3Description: Package Specification; ComponentLink3URL: http://www.ti.com/litv/pdf/mpds028d
footprint TI-DGK8_N (SOP, 8-Leads, Body 3x3mm, Pitch 0.65mm, IPC Medium Density)
footprint TI-DGK8_L (SOP, 8-Leads, Body 3x3mm, Pitch 0.65mm, IPC High Density)
footprint TI-DGK8_M (SOP, 8-Leads, Body 3x3mm, Pitch 0.65mm, IPC Low Density)
pins: 1 VREF (in) "Reference input", 2 IN+ (in) "Noninverting input", 3 IN- (in) "Inverting input. Connect to ground or to remote ground sense point.", 4 GND (power) "Ground", 5 ~{CS}/SHDN (in) "Chip select when low; Shutdown mode when high.", 6 DOUT (hiz) "The serial output data word  is comprised of 12 bits of data. In operation, the data are valid on the falling edge of DCLOCK. The second clock pulse after the falling edge of C\S\ enables the serial output. After one null (See Datasheet)", 7 DCLOCK (in) "Data clock synchronizes the serial data transfer and determines conversion speed.", 8 VCC+ (power) "Power supply"

## ADS7816EB/250G4
designator U?
12-Bit High Speed Micro Power Sampling ADC, -40 to 85 degC, 8-pin SOP (DGK8), Green (RoHS & no Sb/Br); Manufacturer: Texas Instruments; PartNumber: ADS7816EB/250G4; # Input Channels: 1; Analog Voltage AV/DD(Max)(V): 5.25; Analog Voltage AV/DD(Min)(V): 4.5; Architecture: SAR; Digital Supply(Min)(V): 4.75; INL(Max)(+/-LSB): 2; Interface: Serial SPI; Resolution(Bits): 12; Sample Rate (max)(SPS): 200k; SFDR(dB): 86; SINAD(dB): 72; SubFamily: Precision ADC (<=10MSPS); DatasheetVersion: SBAS061; PackageVersion: 4073329/E, 05/2006; PackageReference: DGK8; PackageDescription: 8-Pin Thin Small Outline, Body 3 x 3 mm, Pitch 0.65 mm; Supplier 1: Newark; Supplier Part Number 1: 79R8653; Digital Supply(Max)(V): 5.25; Eco-Plan: Green (RoHS & no Sb/Br); Mounting Technology: Surface Mount; Code_JEDEC: MO-187; ComponentLink1Description: Manufacturer URL; ComponentLink1URL: http://www.ti.com/; ComponentLink2Description: Datasheet; ComponentLink2URL: http://www.ti.com/general/docs/lit/getliterature.tsp?genericPartNumber=ADS7816&fileType=pdf; ComponentLink3Description: Package Specification; ComponentLink3URL: http://www.ti.com/litv/pdf/mpds028d
footprint TI-DGK8_N (SOP, 8-Leads, Body 3x3mm, Pitch 0.65mm, IPC Medium Density)
footprint TI-DGK8_L (SOP, 8-Leads, Body 3x3mm, Pitch 0.65mm, IPC High Density)
footprint TI-DGK8_M (SOP, 8-Leads, Body 3x3mm, Pitch 0.65mm, IPC Low Density)
pins: 1 VREF (in) "Reference input", 2 IN+ (in) "Noninverting input", 3 IN- (in) "Inverting input. Connect to ground or to remote ground sense point.", 4 GND (power) "Ground", 5 ~{CS}/SHDN (in) "Chip select when low; Shutdown mode when high.", 6 DOUT (hiz) "The serial output data word  is comprised of 12 bits of data. In operation, the data are valid on the falling edge of DCLOCK. The second clock pulse after the falling edge of C\S\ enables the serial output. After one null (See Datasheet)", 7 DCLOCK (in) "Data clock synchronizes the serial data transfer and determines conversion speed.", 8 VCC+ (power) "Power supply"

## ADS7816EC/2K5
designator U?
12-Bit High Speed Micro Power Sampling ADC, -40 to 85 degC, 8-pin SOP (DGK8), Green (RoHS & no Sb/Br); Manufacturer: Texas Instruments; PartNumber: ADS7816EC/2K5; # Input Channels: 1; Analog Voltage AV/DD(Max)(V): 5.25; Analog Voltage AV/DD(Min)(V): 4.5; Architecture: SAR; Digital Supply(Min)(V): 4.75; Interface: Serial SPI; Resolution(Bits): 12; Sample Rate (max)(SPS): 200k; SFDR(dB): 86; SINAD(dB): 72; SubFamily: Precision ADC (<=10MSPS); DatasheetVersion: SBAS061; PackageVersion: 4073329/E, 05/2006; PackageReference: DGK8; PackageDescription: 8-Pin Thin Small Outline, Body 3 x 3 mm, Pitch 0.65 mm; Supplier 1: Mouser; Supplier Part Number 1: 595-V62/05613-02XE; Digital Supply(Max)(V): 5.25; Eco-Plan: Green (RoHS & no Sb/Br); INL(Max)(+/-LSB): 1; Mounting Technology: Surface Mount; Code_JEDEC: MO-187; ComponentLink1Description: Manufacturer URL; ComponentLink1URL: http://www.ti.com/; ComponentLink2Description: Datasheet; ComponentLink2URL: http://www.ti.com/general/docs/lit/getliterature.tsp?genericPartNumber=ADS7816&fileType=pdf; ComponentLink3Description: Package Specification; ComponentLink3URL: http://www.ti.com/litv/pdf/mpds028d
footprint TI-DGK8_N (SOP, 8-Leads, Body 3x3mm, Pitch 0.65mm, IPC Medium Density)
footprint TI-DGK8_L (SOP, 8-Leads, Body 3x3mm, Pitch 0.65mm, IPC High Density)
footprint TI-DGK8_M (SOP, 8-Leads, Body 3x3mm, Pitch 0.65mm, IPC Low Density)
pins: 1 VREF (in) "Reference input", 2 IN+ (in) "Noninverting input", 3 IN- (in) "Inverting input. Connect to ground or to remote ground sense point.", 4 GND (power) "Ground", 5 ~{CS}/SHDN (in) "Chip select when low; Shutdown mode when high.", 6 DOUT (hiz) "The serial output data word  is comprised of 12 bits of data. In operation, the data are valid on the falling edge of DCLOCK. The second clock pulse after the falling edge of C\S\ enables the serial output. After one null (See Datasheet)", 7 DCLOCK (in) "Data clock synchronizes the serial data transfer and determines conversion speed.", 8 VCC+ (power) "Power supply"

## ADS7816EC/2K5G4
designator U?
12-Bit High Speed Micro Power Sampling ADC, -40 to 85 degC, 8-pin SOP (DGK8), Green (RoHS & no Sb/Br); Manufacturer: Texas Instruments; PartNumber: ADS7816EC/2K5G4; # Input Channels: 1; Analog Voltage AV/DD(Max)(V): 5.25; Analog Voltage AV/DD(Min)(V): 4.5; Architecture: SAR; Digital Supply(Min)(V): 4.75; Interface: Serial SPI; Resolution(Bits): 12; Sample Rate (max)(SPS): 200k; SFDR(dB): 86; SINAD(dB): 72; SubFamily: Precision ADC (<=10MSPS); DatasheetVersion: SBAS061; PackageVersion: 4073329/E, 05/2006; PackageReference: DGK8; PackageDescription: 8-Pin Thin Small Outline, Body 3 x 3 mm, Pitch 0.65 mm; Supplier 1: Digi-Key; Supplier Part Number 1: 296-17999-ND; Digital Supply(Max)(V): 5.25; Eco-Plan: Green (RoHS & no Sb/Br); INL(Max)(+/-LSB): 1; Mounting Technology: Surface Mount; Code_JEDEC: MO-187; ComponentLink1Description: Manufacturer URL; ComponentLink1URL: http://www.ti.com/; ComponentLink2Description: Datasheet; ComponentLink2URL: http://www.ti.com/general/docs/lit/getliterature.tsp?genericPartNumber=ADS7816&fileType=pdf; ComponentLink3Description: Package Specification; ComponentLink3URL: http://www.ti.com/litv/pdf/mpds028d
footprint TI-DGK8_N (SOP, 8-Leads, Body 3x3mm, Pitch 0.65mm, IPC Medium Density)
footprint TI-DGK8_L (SOP, 8-Leads, Body 3x3mm, Pitch 0.65mm, IPC High Density)
footprint TI-DGK8_M (SOP, 8-Leads, Body 3x3mm, Pitch 0.65mm, IPC Low Density)
pins: 1 VREF (in) "Reference input", 2 IN+ (in) "Noninverting input", 3 IN- (in) "Inverting input. Connect to ground or to remote ground sense point.", 4 GND (power) "Ground", 5 ~{CS}/SHDN (in) "Chip select when low; Shutdown mode when high.", 6 DOUT (hiz) "The serial output data word  is comprised of 12 bits of data. In operation, the data are valid on the falling edge of DCLOCK. The second clock pulse after the falling edge of C\S\ enables the serial output. After one null (See Datasheet)", 7 DCLOCK (in) "Data clock synchronizes the serial data transfer and determines conversion speed.", 8 VCC+ (power) "Power supply"

## ADS7816EC/250
designator U?
12-Bit High Speed Micro Power Sampling ADC, -40 to 85 degC, 8-pin SOP (DGK8), Green (RoHS & no Sb/Br); Manufacturer: Texas Instruments; PartNumber: ADS7816EC/250; # Input Channels: 1; Analog Voltage AV/DD(Max)(V): 5.25; Analog Voltage AV/DD(Min)(V): 4.5; Architecture: SAR; Digital Supply(Min)(V): 4.75; Interface: Serial SPI; Resolution(Bits): 12; Sample Rate (max)(SPS): 200k; SFDR(dB): 86; SINAD(dB): 72; SubFamily: Precision ADC (<=10MSPS); DatasheetVersion: SBAS061; PackageVersion: 4073329/E, 05/2006; PackageReference: DGK8; PackageDescription: 8-Pin Thin Small Outline, Body 3 x 3 mm, Pitch 0.65 mm; Supplier 1: Digi-Key; Supplier Part Number 1: ADS5541IPAPG4-ND; Digital Supply(Max)(V): 5.25; Eco-Plan: Green (RoHS & no Sb/Br); INL(Max)(+/-LSB): 1; Mounting Technology: Surface Mount; Code_JEDEC: MO-187; ComponentLink1Description: Manufacturer URL; ComponentLink1URL: http://www.ti.com/; ComponentLink2Description: Datasheet; ComponentLink2URL: http://www.ti.com/general/docs/lit/getliterature.tsp?genericPartNumber=ADS7816&fileType=pdf; ComponentLink3Description: Package Specification; ComponentLink3URL: http://www.ti.com/litv/pdf/mpds028d
footprint TI-DGK8_N (SOP, 8-Leads, Body 3x3mm, Pitch 0.65mm, IPC Medium Density)
footprint TI-DGK8_L (SOP, 8-Leads, Body 3x3mm, Pitch 0.65mm, IPC High Density)
footprint TI-DGK8_M (SOP, 8-Leads, Body 3x3mm, Pitch 0.65mm, IPC Low Density)
pins: 1 VREF (in) "Reference input", 2 IN+ (in) "Noninverting input", 3 IN- (in) "Inverting input. Connect to ground or to remote ground sense point.", 4 GND (power) "Ground", 5 ~{CS}/SHDN (in) "Chip select when low; Shutdown mode when high.", 6 DOUT (hiz) "The serial output data word  is comprised of 12 bits of data. In operation, the data are valid on the falling edge of DCLOCK. The second clock pulse after the falling edge of C\S\ enables the serial output. After one null (See Datasheet)", 7 DCLOCK (in) "Data clock synchronizes the serial data transfer and determines conversion speed.", 8 VCC+ (power) "Power supply"

## ADS7816EC/250G4
designator U?
12-Bit High Speed Micro Power Sampling ADC, -40 to 85 degC, 8-pin SOP (DGK8), Green (RoHS & no Sb/Br); Manufacturer: Texas Instruments; PartNumber: ADS7816EC/250G4; # Input Channels: 1; Analog Voltage AV/DD(Max)(V): 5.25; Analog Voltage AV/DD(Min)(V): 4.5; Architecture: SAR; Digital Supply(Min)(V): 4.75; Interface: Serial SPI; Resolution(Bits): 12; Sample Rate (max)(SPS): 200k; SFDR(dB): 86; SINAD(dB): 72; SubFamily: Precision ADC (<=10MSPS); DatasheetVersion: SBAS061; PackageVersion: 4073329/E, 05/2006; PackageReference: DGK8; PackageDescription: 8-Pin Thin Small Outline, Body 3 x 3 mm, Pitch 0.65 mm; Supplier 1: Digi-Key; Supplier Part Number 1: ADS5541IPAPR-ND; Digital Supply(Max)(V): 5.25; Eco-Plan: Green (RoHS & no Sb/Br); INL(Max)(+/-LSB): 1; Mounting Technology: Surface Mount; Code_JEDEC: MO-187; ComponentLink1Description: Manufacturer URL; ComponentLink1URL: http://www.ti.com/; ComponentLink2Description: Datasheet; ComponentLink2URL: http://www.ti.com/general/docs/lit/getliterature.tsp?genericPartNumber=ADS7816&fileType=pdf; ComponentLink3Description: Package Specification; ComponentLink3URL: http://www.ti.com/litv/pdf/mpds028d
footprint TI-DGK8_N (SOP, 8-Leads, Body 3x3mm, Pitch 0.65mm, IPC Medium Density)
footprint TI-DGK8_L (SOP, 8-Leads, Body 3x3mm, Pitch 0.65mm, IPC High Density)
footprint TI-DGK8_M (SOP, 8-Leads, Body 3x3mm, Pitch 0.65mm, IPC Low Density)
pins: 1 VREF (in) "Reference input", 2 IN+ (in) "Noninverting input", 3 IN- (in) "Inverting input. Connect to ground or to remote ground sense point.", 4 GND (power) "Ground", 5 ~{CS}/SHDN (in) "Chip select when low; Shutdown mode when high.", 6 DOUT (hiz) "The serial output data word  is comprised of 12 bits of data. In operation, the data are valid on the falling edge of DCLOCK. The second clock pulse after the falling edge of C\S\ enables the serial output. After one null (See Datasheet)", 7 DCLOCK (in) "Data clock synchronizes the serial data transfer and determines conversion speed.", 8 VCC+ (power) "Power supply"